# EAGLE library part ECC83C (library tubes)
ECC83: Dual triode tube (Siemens) Heater 6.3V/150mA, 100V Ua, 1W Qmax with case pin
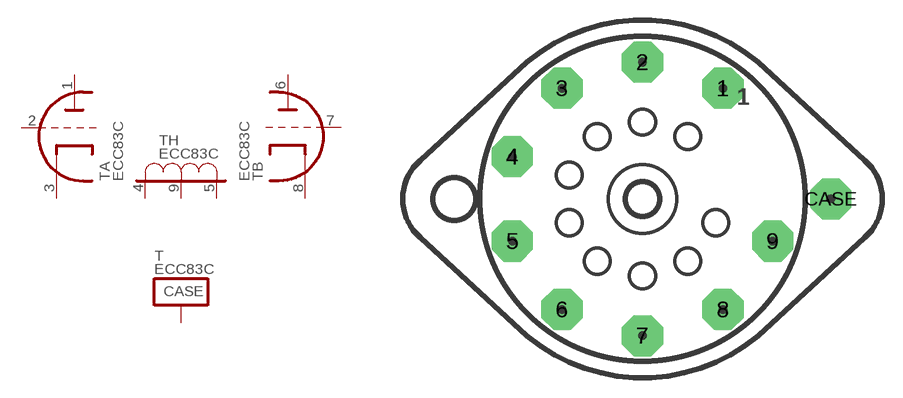
[diagram p3: symbol with the pads of NOVAL-C; footprint NOVAL-C]

Designator prefix T; gates A=ECC83A H=ECC83C B=ECC83B G$1=CASE

## ECC83C  [NOVAL-C]
1  A:A1
2  A:G1  in
3  A:C1
4  H:H1
5  H:H2
6  B:A1
7  B:G1  in
8  B:C1
9  H:H
CASE  G$1:CASE  pas

## Footprint NOVAL-C (pad centres in mm)
Vacuum tube socket, 9 pins with case pin
drill 1.6 pad 3.048 octagon: 1 5.972,8.22; 2 0,10.16; 3 -5.972,8.22; 4 -9.663,3.14; 5 -9.663,-3.14; 6 -5.972,-8.22; 7 0,-10.16; 8 5.972,-8.22; 9 9.663,-3.14
drill 1.194 pad 3.048 octagon: CASE 13.97,0
hole 3.2 at -13.97,0